# Altium footprint library capacitor.PcbLib: 1 footprints
Each footprint in its own frame and in the unit in brackets; x right, y up, seen from the top. Pads: shape width x height; smd on the part's side, far side on the other; paste and mask are expansions set on the pad; w line width, h text height; cw(c..) or ccw(c..) is an arc to the next point about the centre after c.
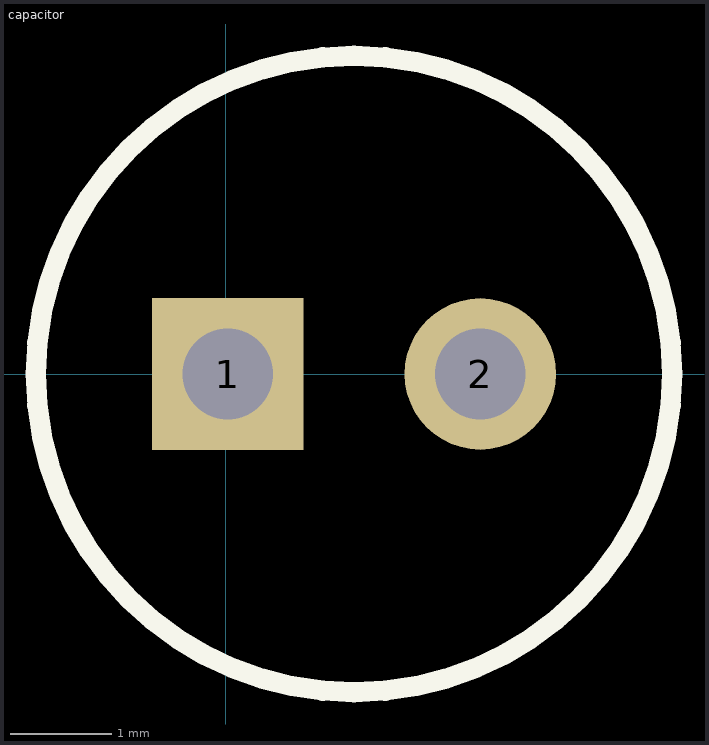
[diagram p0: the footprint, top view; thin cyan lines are the x and y axes]

## capacitor [mm]
pads (2):
  rect 1.5x1.5 hole 0.9: 1(0.02,0)
  round 1.5 hole 0.9: 2(2.52,0)
Top Overlay:
  circle w0.2: c1.27,0 r3.15